# EAGLE library part DB9 (library custom-2002)
Conectores Puerto Serie PC Conector visto de frente
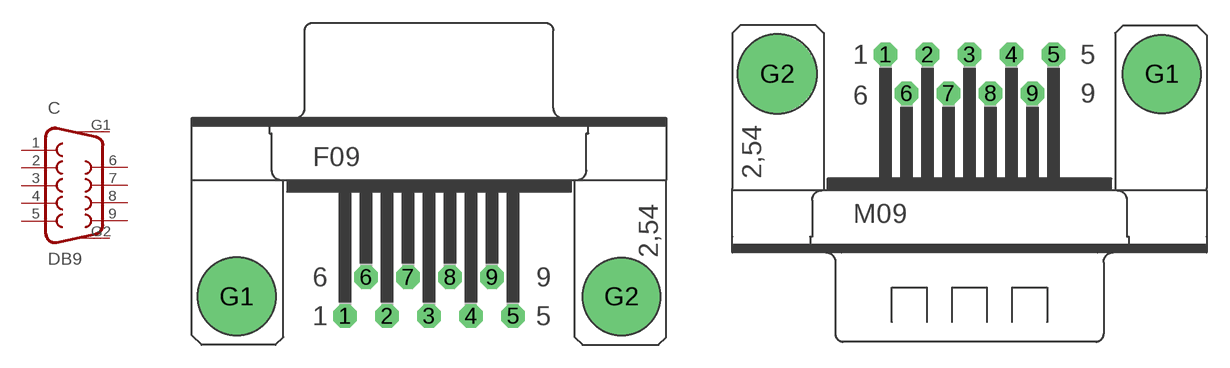
[diagram p7: symbol with the pads of DB9H; footprints DB9H, DB9M]

Designator prefix C

## DB9H  [DB9H]
1  1  pas
2  2  pas
3  3  pas
4  4  pas
5  5  pas
6  6  pas
7  7  pas
8  8  pas
9  9  pas
G1  G1  pas
G2  G2  pas

## DB9M  [DB9M]
1  5  pas
2  4  pas
3  3  pas
4  2  pas
5  1  pas
6  9  pas
7  8  pas
8  7  pas
9  6  pas
G1  G1  pas
G2  G2  pas

## Footprint DB9H (pad centres in mm)
Conector DB9 hembra
drill 1.016 octagon: 1 -0.025,0; 2 2.718,0; 3 5.461,0; 4 8.204,0; 5 10.947,0; 6 1.346,2.54; 7 4.089,2.54; 8 6.833,2.54; 9 9.576,2.54
drill 3.81 pad 5.08 round: G1 -7.112,1.27; G2 18.034,1.27

## Footprint DB9M (pad centres in mm)
Conector DB9 macho
drill 1.016 octagon: 1 -0.025,2.54; 2 2.718,2.54; 3 5.461,2.54; 4 8.204,2.54; 5 10.947,2.54; 6 1.346,0; 7 4.089,0; 8 6.833,0; 9 9.576,0
drill 3.81 pad 5.08 round: G1 18.034,1.27; G2 -7.112,1.27